# Altium footprint library LCD12864.PcbLib: 1 footprints
Each footprint in its own frame and in the unit in brackets; x right, y up, seen from the top. Pads: shape width x height; smd on the part's side, far side on the other; paste and mask are expansions set on the pad; w line width, h text height; cw(c..) or ccw(c..) is an arc to the next point about the centre after c.
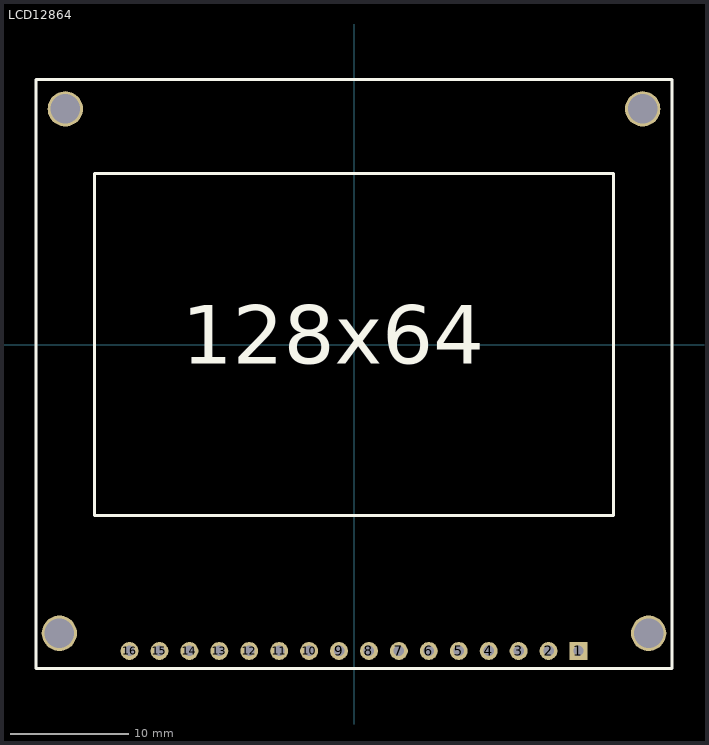
[diagram p0: the footprint, top view; thin cyan lines are the x and y axes]

## LCD12864 [mil]
height 10
pads (20):
  rect 60x60 hole 35: 1(750,-1023.62)
  round 60 hole 35: 2(650,-1023.62) 3(550,-1023.62) 4(450,-1023.62) 5(350,-1023.62) 6(250,-1023.62) 7(150,-1023.62) 8(50,-1023.62) 9(-50,-1023.62) 10(-150,-1023.62) 11(-250,-1023.62) 12(-350,-1023.62) 13(-450,-1023.62) 14(-550,-1023.62) 15(-650,-1023.62) 16(-750,-1023.62)
  round 118.11 hole 98.43: ""(-984.25,-964.57) ""(-964.57,787.4) ""(964.57,787.4) ""(984.25,-964.57)
Top Overlay:
  lines w10: -1062.99,-1082.68 -1062.99,885.83 1062.99,885.83 1062.99,-1082.68 -1062.99,-1082.68 ; -866.14,-570.87 866.14,-570.87 866.14,570.87 -866.14,570.87 -866.14,-570.87
  text "128x64" at -575,-65 h196.85